# EAGLE library part MTR_CONT_MOD (library MODULES)
Uniwheel motor controller board module
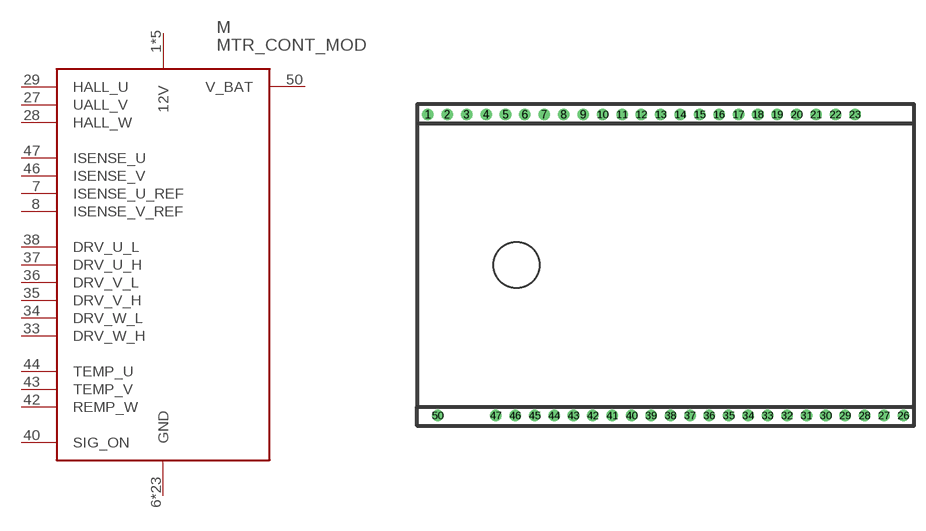
[diagram p5: symbol with the pads of MTR_CONT_MOD; footprint MTR_CONT_MOD]

Designator prefix M

## MTR_CONT_MOD  [MTR_CONT_MOD]
1  12V
2  12V
3  12V
4  12V
5  12V
6  GND
7  ISENSE_U_REF
8  ISENSE_V_REF
9  GND
10  GND
11  GND
12  GND
13  GND
14  GND
15  GND
16  GND
17  GND
18  GND
19  GND
20  GND
21  GND
22  GND
23  GND
26  GND
27  UALL_V
28  HALL_W
29  HALL_U
30  GND
31  GND
32  GND
33  DRV_W_H
34  DRV_W_L
35  DRV_V_H
36  DRV_V_L
37  DRV_U_H
38  DRV_U_L
39  GND
40  SIG_ON
41  GND
42  REMP_W
43  TEMP_V
44  TEMP_U
45  GND
46  ISENSE_V
47  ISENSE_U
50  V_BAT

## Footprint MTR_CONT_MOD (pad centres in mm)
drill 1 pad 1.5: 1 -31.115,19.685; 2 -28.575,19.685; 3 -26.035,19.685; 4 -23.495,19.685; 5 -20.955,19.685; 6 -18.415,19.685; 7 -15.875,19.685; 8 -13.335,19.685; 9 -10.795,19.685; 10 -8.255,19.685; 11 -5.715,19.685; 12 -3.175,19.685; 13 -0.635,19.685; 14 1.905,19.685; 15 4.445,19.685; 16 6.985,19.685; 17 9.525,19.685; 18 12.065,19.685; 19 14.605,19.685; 20 17.145,19.685; 21 19.685,19.685; 22 22.225,19.685; 23 24.765,19.685; 26 31.115,-19.685; 27 28.575,-19.685; 28 26.035,-19.685; 29 23.495,-19.685; 30 20.955,-19.685; 31 18.415,-19.685; 32 15.875,-19.685; 33 13.335,-19.685; 34 10.795,-19.685; 35 8.255,-19.685; 36 5.715,-19.685; 37 3.175,-19.685; 38 0.635,-19.685; 39 -1.905,-19.685; 40 -4.445,-19.685; 41 -6.985,-19.685; 42 -9.525,-19.685; 43 -12.065,-19.685; 44 -14.605,-19.685; 45 -17.145,-19.685; 46 -19.685,-19.685; 47 -22.225,-19.685; 50 -29.845,-19.685